# EAGLE library part STHS34PF80 (library STHS34PF80)
Bosch BMP384 Pressure Sensor Senses pressure from 300 hPa to 1250 hPa, sends data out over I2C or SPI
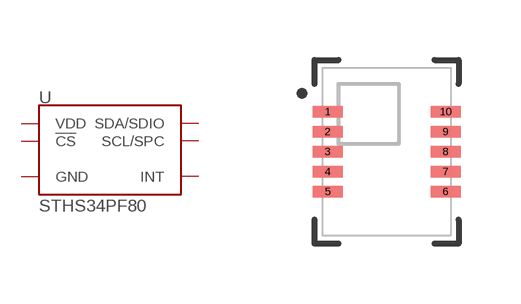
[diagram p0: symbol with the pads of OLGA-10L; footprint OLGA-10L]

Designator prefix U

## STHS34PF80 (PROD_ID: IC-)  [OLGA-10L]
1  SCL/SPC
2  GND  pwr
3  !CS!  in
4  SDA/SDIO
6  VDD  pwr
7  GND  pwr
8  GND  pwr
9  VDD  pwr
10  INT  out

## Footprint OLGA-10L (pad centres in mm)
LGA10 Specifications: Pin count: 10 Pin pitch: .5mm Area: 2.0 x 2.0 mm Datasheet referenced for footprint <https://media.digikey.com/pdf/Data%20Sheets/Bosch/bst-bmp384-ds003.pdf>
smd 0.75 x 0.285: 1 -1.475,1; 2 -1.475,0.5; 3 -1.475,0; 4 -1.475,-0.5; 5 -1.475,-1; 6 1.475,-1; 7 1.475,-0.5; 8 1.475,0; 9 1.475,0.5; 10 1.475,1